# EAGLE library part HM-MOD-RPI-PCB (library modules)
HM-MOD-RPI-PCB Source: http://www.elv.de/homematic-funkmodul-fuer-raspberry-pi-bausatz.html
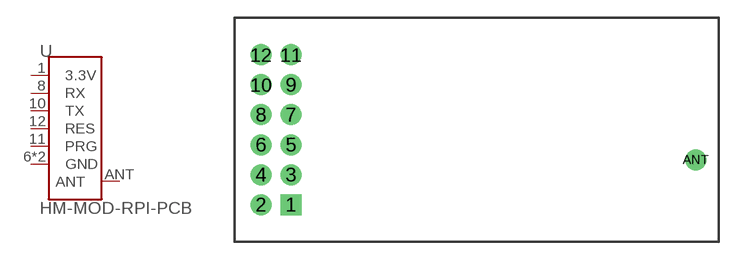
[diagram p0: symbol with the pads of HM-MOD-RPI-PCB; footprint HM-MOD-RPI-PCB]

Designator prefix -

## HM-MOD-RPI-PCB1  [HM-MOD-RPI-PCB]
1  3.3V  pwr
6  GND  pwr
8  RX  in
9  GND  pwr
10  TX  out
11  PRG  in
12  RES  in
ANT  ANT  in

## Footprint HM-MOD-RPI-PCB (pad centres in mm)
Slim Power Relay NAiS Source: http://www.hongfa.com/pro/pdf/HF46F_en.pdf
drill 1 pad 1.778 square: 1 -15.73,-6.35
drill 1 pad 1.778: 2 -18.27,-6.35; 3 -15.73,-3.81; 4 -18.27,-3.81; 5 -15.73,-1.27; 6 -18.27,-1.27; 7 -15.73,1.27; 8 -18.27,1.27; 9 -15.73,3.81; 10 -18.27,3.81; 11 -15.73,6.35; 12 -18.27,6.35; ANT 18.56,-2.54